# Altium schematic symbol library TLH-010-0.50-G-D-A.SchLib: 1 symbol
Pins are listed as number, name and electrical type; pins without a type are passive.

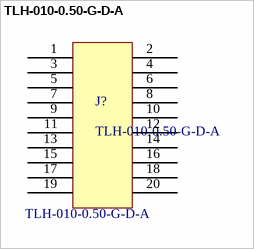
[diagram p0: symbol TLH-010-0.50-G-D-A]

## TLH-010-0.50-G-D-A
designator J?
0.50 mm Razor Beam LP Ultra Low Profile Terminal Strip, alignment pin option; Supplier 1: Samtec; ComponentLink1Description: Product Page; ComponentLink1URL: https://www.samtec.com/products/tlh-010-0.50-g-d-a; Supplier Part Number 1: TLH-010-0.50-G-D-A
footprint TLH-010-0.50-G-D-A
pins: 1, 2, 3, 4, 5, 6, 7, 8, 9, 10, 11, 12, 13, 14, 15, 16, 17, 18, 19, 20